# Altium integrated library Analog Devices Interface and Isolation Level Translators.IntLib: 67 symbols (part 1 of 3)
Pins are listed as number, name and electrical type; pins without a type are passive.

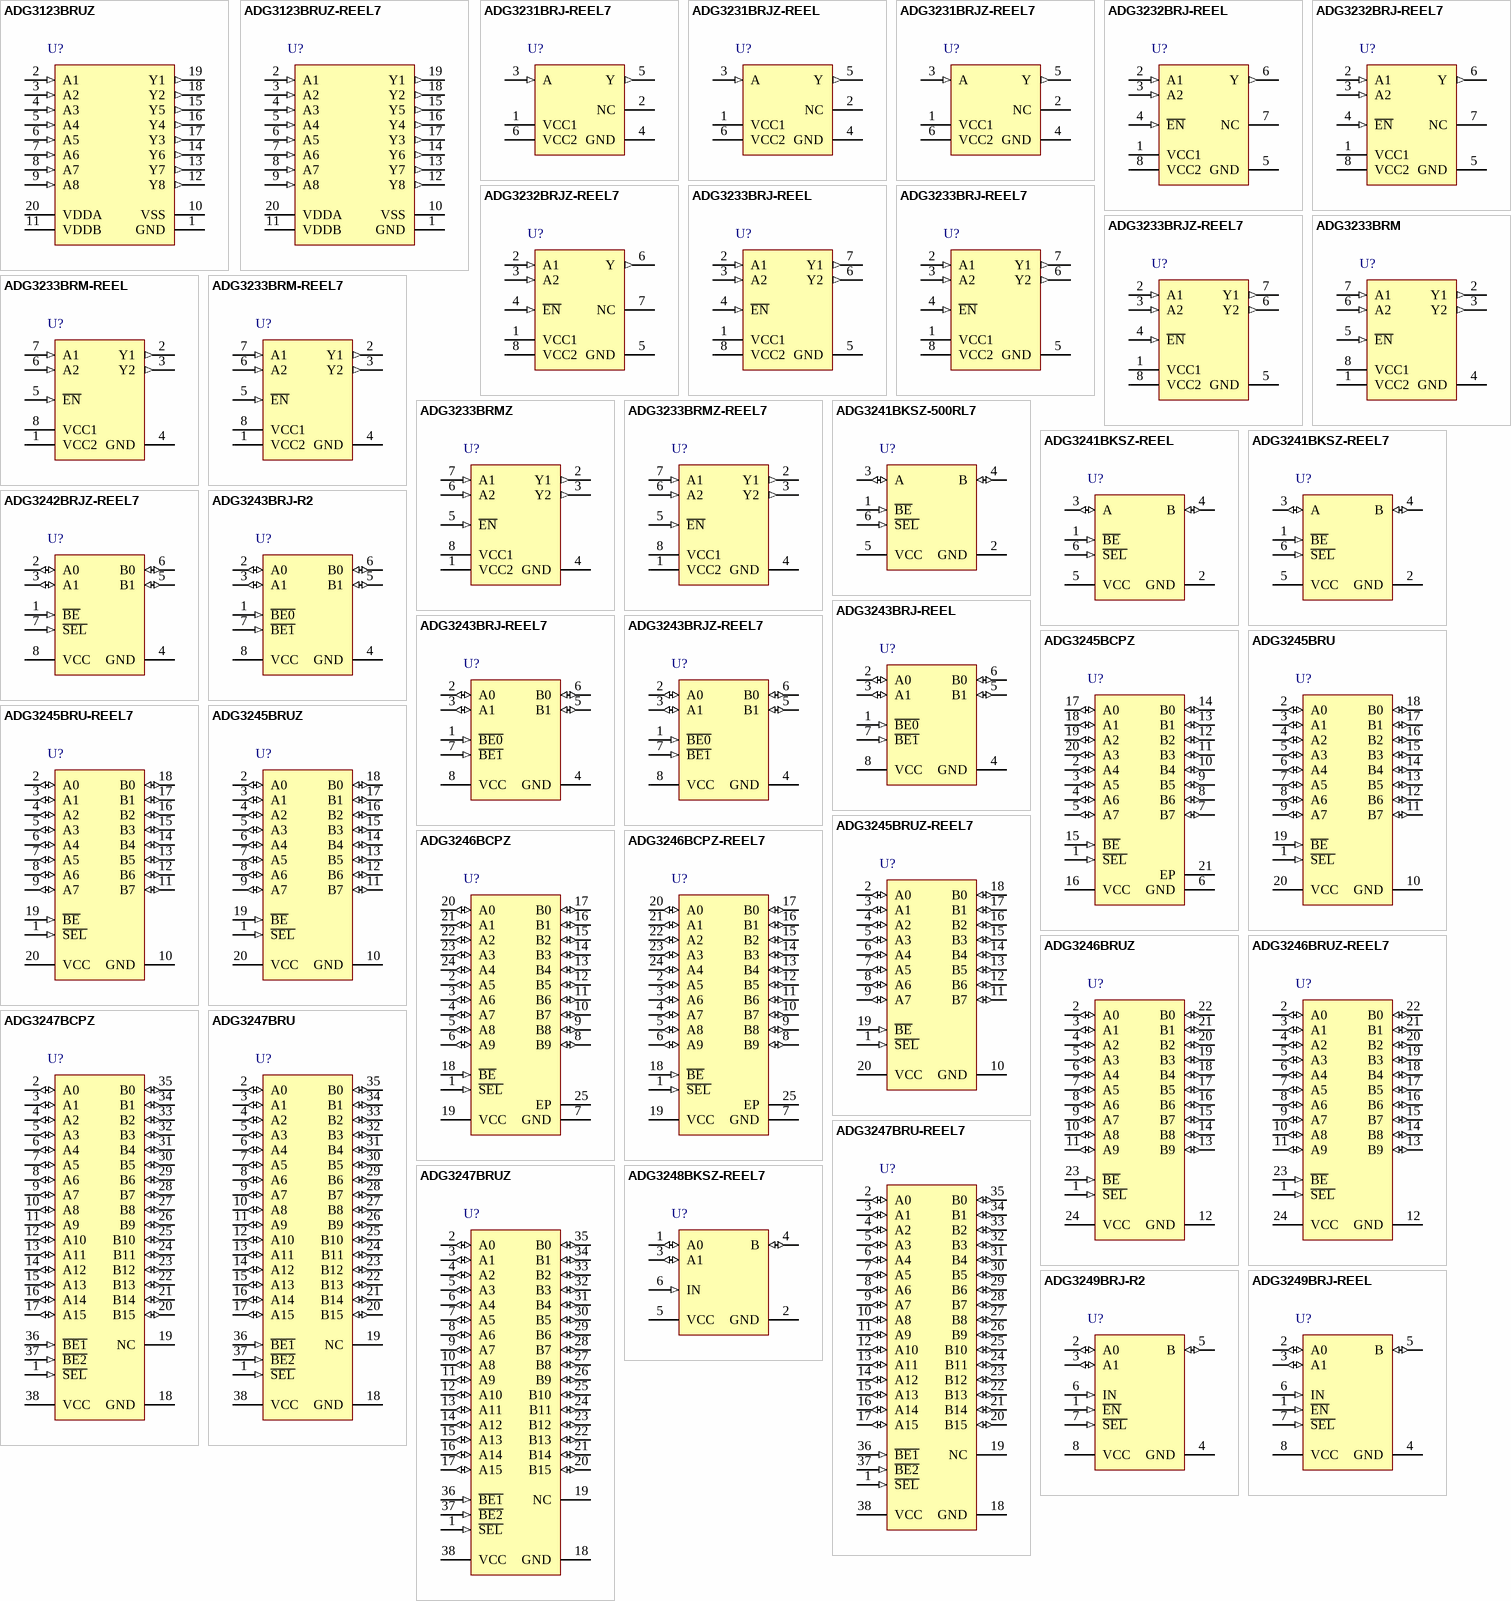
[diagram p0: symbols ADG3123BRUZ to ADG3249BRJ-REEL]

## ADG3123BRUZ
designator U?
8-Channel CMOS Logic to High Voltage Level Translator, 80 ns Prop Delay, -40 to 85 degC, 20-pin SOP (RU-20), Tube; Manufacturer: Analog Devices; PartNumber: ADG3123BRUZ; DatasheetVersion: Rev. A; PackageVersion: Jan-03; PackageReference: RU-20; PackageDescription: 20-Pin Thin Shrink Small Outline Package, Body 6.5 x 4.4 mm, Pitch 0.65 mm; Supplier 1: Digi-Key; Supplier Part Number 1: ADG3123BRUZ-ND; Supplier 2: Farnell; Supplier Part Number 2: 1607861; Supplier 3: Newark; Supplier Part Number 3: 76R0124; Supplier 4: Newark; Supplier Part Number 4: 19M0670; Supplier 5: Mouser; Supplier Part Number 5: 584-ADG3123BRUZ; Mounting Technology: Surface Mount; Code_JEDEC: MO-153AC; ComponentLink1Description: Manufacturer URL; ComponentLink1URL: http://www.analog.com/en/index.html; ComponentLink2Description: Datasheet; ComponentLink2URL: http://www.analog.com/static/imported-files/data_sheets/ADG3123.pdf; ComponentLink3Description: Package Specification; ComponentLink3URL: http://www.analog.com/static/imported-files/packages/364515793657813558433715854054607941441RU20.pdf
footprint ADI-RU-20_N (SOP, 20-Leads, Body 6.5x4.4mm, Pitch 0.65mm, IPC Medium Density)
footprint ADI-RU-20_L (SOP, 20-Leads, Body 6.5x4.4mm, Pitch 0.65mm, IPC High Density)
footprint ADI-RU-20_M (SOP, 20-Leads, Body 6.5x4.4mm, Pitch 0.65mm, IPC Low Density)
pins: 1 GND (power) "Ground Reference (0 V).", 2 A1 (in) "Level Translator CMOS Inputs.", 3 A2 (in) "Level Translator CMOS Inputs.", 4 A3 (in) "Level Translator CMOS Inputs.", 5 A4 (in) "Level Translator CMOS Inputs.", 6 A5 (in) "Level Translator CMOS Inputs.", 7 A6 (in) "Level Translator CMOS Inputs.", 8 A7 (in) "Level Translator CMOS Inputs.", 9 A8 (in) "Level Translator CMOS Inputs.", 10 VSS (power) "Most Negative Power Supply. Use the VSS pin to generate the output low level for Output Y1 to Output Y8.", 11 VDDB (power) "Positive Power Supply. Use the VDDB pin to generate the output high level for Output Y7 and Output Y8.", 12 Y8 (out) "Level Translator High Voltage Outputs.", 13 Y7 (out) "Level Translator High Voltage Outputs.", 14 Y6 (out) "Level Translator High Voltage Outputs.", 15 Y5 (out) "Level Translator High Voltage Outputs.", 16 Y4 (out) "Level Translator High Voltage Outputs.", 17 Y3 (out) "Level Translator High Voltage Outputs.", 18 Y2 (out) "Level Translator High Voltage Outputs.", 19 Y1 (out) "Level Translator High Voltage Outputs.", 20 VDDA (power) "Analog Input. Use the VDDA pin to generate the output high level for Output Y1 to Output Y6 (VDDA =< VDDB)."

## ADG3123BRUZ-REEL7
designator U?
8-Channel CMOS Logic to High Voltage Level Translator, 80 ns Prop Delay, -40 to 85 degC, 20-pin SOP (RU-20), Reel; Manufacturer: Analog Devices; PartNumber: ADG3123BRUZ-REEL7; DatasheetVersion: Rev. A; PackageVersion: Jan-03; PackageReference: RU-20; PackageDescription: 20-Pin Thin Shrink Small Outline Package, Body 6.5 x 4.4 mm, Pitch 0.65 mm; Supplier 1: Digi-Key; Supplier Part Number 1: ADG3123BRUZ-REEL7-ND; Supplier 2: Mouser; Supplier Part Number 2: 584-ADG3123BRUZ-R7; Mounting Technology: Surface Mount; Code_JEDEC: MO-153AC; ComponentLink1Description: Manufacturer URL; ComponentLink1URL: http://www.analog.com/en/index.html; ComponentLink2Description: Datasheet; ComponentLink2URL: http://www.analog.com/static/imported-files/data_sheets/ADG3123.pdf; ComponentLink3Description: Package Specification; ComponentLink3URL: http://www.analog.com/static/imported-files/packages/364515793657813558433715854054607941441RU20.pdf
footprint ADI-RU-20_N (SOP, 20-Leads, Body 6.5x4.4mm, Pitch 0.65mm, IPC Medium Density)
footprint ADI-RU-20_L (SOP, 20-Leads, Body 6.5x4.4mm, Pitch 0.65mm, IPC High Density)
footprint ADI-RU-20_M (SOP, 20-Leads, Body 6.5x4.4mm, Pitch 0.65mm, IPC Low Density)
pins: 1 GND (power) "Ground Reference (0 V).", 2 A1 (in) "Level Translator CMOS Inputs.", 3 A2 (in) "Level Translator CMOS Inputs.", 4 A3 (in) "Level Translator CMOS Inputs.", 5 A4 (in) "Level Translator CMOS Inputs.", 6 A5 (in) "Level Translator CMOS Inputs.", 7 A6 (in) "Level Translator CMOS Inputs.", 8 A7 (in) "Level Translator CMOS Inputs.", 9 A8 (in) "Level Translator CMOS Inputs.", 10 VSS (power) "Most Negative Power Supply. Use the VSS pin to generate the output low level for Output Y1 to Output Y8.", 11 VDDB (power) "Positive Power Supply. Use the VDDB pin to generate the output high level for Output Y7 and Output Y8.", 12 Y8 (out) "Level Translator High Voltage Outputs.", 13 Y7 (out) "Level Translator High Voltage Outputs.", 14 Y6 (out) "Level Translator High Voltage Outputs.", 15 Y5 (out) "Level Translator High Voltage Outputs.", 16 Y4 (out) "Level Translator High Voltage Outputs.", 17 Y3 (out) "Level Translator High Voltage Outputs.", 18 Y2 (out) "Level Translator High Voltage Outputs.", 19 Y1 (out) "Level Translator High Voltage Outputs.", 20 VDDA (power) "Analog Input. Use the VDDA pin to generate the output high level for Output Y1 to Output Y6 (VDDA =< VDDB)."

## ADG3231BRJ-REEL7
designator U?
1.65 V to 3.6 V, Single-Channel Level Translator, -40 to 85 degC, 6-pin SOT23 (RJ-6), Reel; Manufacturer: Analog Devices; PartNumber: ADG3231BRJ-REEL7; DatasheetVersion: Rev. C; PackageVersion: 121608-A, 12/2008; PackageReference: RJ-6; PackageDescription: 6-Pin Small Outline Transistor Package, Body 2.9 x 1.6 mm, Pitch 0.95 mm; Supplier 1: Digi-Key; Supplier Part Number 1: ADG3231BRJ-REEL7TR-ND; Supplier 2: Digi-Key; Supplier Part Number 2: ADG3231BRJ-REEL7CT-ND; Supplier 3: Digi-Key; Supplier Part Number 3: ADG3231BRJ-REEL7DKR-ND; Supplier 4: Mouser; Supplier Part Number 4: 584-ADG3231BRJ-R7; Mounting Technology: Surface Mount; Code_JEDEC: MO-178-AB; ComponentLink1Description: Manufacturer URL; ComponentLink1URL: http://www.analog.com/en/index.html; ComponentLink2Description: Datasheet; ComponentLink2URL: http://www.analog.com/static/imported-files/data_sheets/ADG3231.pdf; ComponentLink3Description: Package Specification; ComponentLink3URL: http://www.analog.com/static/imported-files/packages/PKG_PDF/SOT-23(RJ)/RJ_6.pdf
footprint ADI-RJ-6_N (SOT23, 6-Leads, Body 2.9x1.6mm, Pitch 0.95mm, IPC Medium Density)
footprint ADI-RJ-6_L (SOT23, 6-Leads, Body 2.9x1.6mm, Pitch 0.95mm, IPC High Density)
footprint ADI-RJ-6_M (SOT23, 6-Leads, Body 2.9x1.6mm, Pitch 0.95mm, IPC Low Density)
pins: 1 VCC1 (power) "Supply Voltage 1. Can be any supply voltage from 1.65 V to 3.6 V.", 2 NC "Not internally connected.", 3 A (in) "Digital Input Referred to VCC1.", 4 GND (power) "Device Ground Pin.", 5 Y (out) "Digital Output Referred to VCC2.", 6 VCC2 (power) "Supply Voltage 2. Can be any supply voltage from 1.65 V to 3.6 V."

## ADG3231BRJZ-REEL
designator U?
1.65 V to 3.6 V, Single-Channel Level Translator, -40 to 85 degC, 6-pin SOT23 (RJ-6), Reel; Manufacturer: Analog Devices; PartNumber: ADG3231BRJZ-REEL; DatasheetVersion: Rev. C; PackageVersion: 121608-A, 12/2008; PackageReference: RJ-6; PackageDescription: 6-Pin Small Outline Transistor Package, Body 2.9 x 1.6 mm, Pitch 0.95 mm; Supplier 1: Digi-Key; Supplier Part Number 1: ADG3231BRJZ-REEL-ND; Supplier 2: Mouser; Supplier Part Number 2: 584-ADG3231BRJZ-R; Mounting Technology: Surface Mount; Code_JEDEC: MO-178-AB; ComponentLink1Description: Manufacturer URL; ComponentLink1URL: http://www.analog.com/en/index.html; ComponentLink2Description: Datasheet; ComponentLink2URL: http://www.analog.com/static/imported-files/data_sheets/ADG3231.pdf; ComponentLink3Description: Package Specification; ComponentLink3URL: http://www.analog.com/static/imported-files/packages/PKG_PDF/SOT-23(RJ)/RJ_6.pdf
footprint ADI-RJ-6_N (SOT23, 6-Leads, Body 2.9x1.6mm, Pitch 0.95mm, IPC Medium Density)
footprint ADI-RJ-6_L (SOT23, 6-Leads, Body 2.9x1.6mm, Pitch 0.95mm, IPC High Density)
footprint ADI-RJ-6_M (SOT23, 6-Leads, Body 2.9x1.6mm, Pitch 0.95mm, IPC Low Density)
pins: 1 VCC1 (power) "Supply Voltage 1. Can be any supply voltage from 1.65 V to 3.6 V.", 2 NC "Not internally connected.", 3 A (in) "Digital Input Referred to VCC1.", 4 GND (power) "Device Ground Pin.", 5 Y (out) "Digital Output Referred to VCC2.", 6 VCC2 (power) "Supply Voltage 2. Can be any supply voltage from 1.65 V to 3.6 V."

## ADG3231BRJZ-REEL7
designator U?
1.65 V to 3.6 V, Single-Channel Level Translator, -40 to 85 degC, 6-pin SOT23 (RJ-6), Reel; Manufacturer: Analog Devices; PartNumber: ADG3231BRJZ-REEL7; DatasheetVersion: Rev. C; PackageVersion: 121608-A, 12/2008; PackageReference: RJ-6; PackageDescription: 6-Pin Small Outline Transistor Package, Body 2.9 x 1.6 mm, Pitch 0.95 mm; Supplier 1: Digi-Key; Supplier Part Number 1: ADG3231BRJZ-REEL7TR-ND; Supplier 2: Digi-Key; Supplier Part Number 2: ADG3231BRJZ-REEL7CT-ND; Supplier 3: Digi-Key; Supplier Part Number 3: ADG3231BRJZ-REEL7DKR-ND; Supplier 4: Farnell; Supplier Part Number 4: 2312833; Supplier 5: Newark; Supplier Part Number 5: 67W2633; Supplier 6: Newark; Supplier Part Number 6: 59K1200; Supplier 7: Mouser; Supplier Part Number 7: 584-ADG3231BRJZ-R7; Mounting Technology: Surface Mount; Code_JEDEC: MO-178-AB; ComponentLink1Description: Manufacturer URL; ComponentLink1URL: http://www.analog.com/en/index.html; ComponentLink2Description: Datasheet; ComponentLink2URL: http://www.analog.com/static/imported-files/data_sheets/ADG3231.pdf; ComponentLink3Description: Package Specification; ComponentLink3URL: http://www.analog.com/static/imported-files/packages/PKG_PDF/SOT-23(RJ)/RJ_6.pdf
footprint ADI-RJ-6_N (SOT23, 6-Leads, Body 2.9x1.6mm, Pitch 0.95mm, IPC Medium Density)
footprint ADI-RJ-6_L (SOT23, 6-Leads, Body 2.9x1.6mm, Pitch 0.95mm, IPC High Density)
footprint ADI-RJ-6_M (SOT23, 6-Leads, Body 2.9x1.6mm, Pitch 0.95mm, IPC Low Density)
pins: 1 VCC1 (power) "Supply Voltage 1. Can be any supply voltage from 1.65 V to 3.6 V.", 2 NC "Not internally connected.", 3 A (in) "Digital Input Referred to VCC1.", 4 GND (power) "Device Ground Pin.", 5 Y (out) "Digital Output Referred to VCC2.", 6 VCC2 (power) "Supply Voltage 2. Can be any supply voltage from 1.65 V to 3.6 V."

## ADG3232BRJ-REEL
designator U?
Low Voltage 2-1 Mux, Level Translator, -40 to 85 degC, 8-pin SOT23 (RJ-8), Reel; Manufacturer: Analog Devices; PartNumber: ADG3232BRJ-REEL; DatasheetVersion: Rev. A; PackageVersion: 121608-A, 12/2008; PackageReference: RJ-8; PackageDescription: 8-Pin Small Outline Transistor Package, Body 2.9 x 1.6 mm, Pitch 0.65 mm; Supplier 1: Digi-Key; Supplier Part Number 1: ADG3232BRJ-REEL-ND; Supplier 2: Mouser; Supplier Part Number 2: 584-ADG3232BRJ-R; Mounting Technology: Surface Mount; Code_JEDEC: MO-178-BA; ComponentLink1Description: Manufacturer URL; ComponentLink1URL: http://www.analog.com/en/index.html; ComponentLink2Description: Datasheet; ComponentLink2URL: http://www.analog.com/static/imported-files/data_sheets/ADG3232.pdf; ComponentLink3Description: Package Specification; ComponentLink3URL: http://www.analog.com/static/imported-files/packages/PKG_PDF/SOT-23(RJ)/RJ_8.pdf
footprint ADI-RJ-8_V (SOT23, 8-Leads, Body 2.9x1.6mm, Pitch 0.65mm)
pins: 1 VCC1 (power) "Supply Voltage 1 can be any supply voltage from 1.65 V to 3.6 V.", 2 A1 (in) "Input Referred to VCC1.", 3 A2 (in) "Input Referred to VCC1.", 4 ~{EN} (in) "Active Low Device Enable. When low, bypass mode is enabled; when high, the device is in normal mode.", 5 GND (power) "Device Ground Pin.", 6 Y (out) "Output Referred to VCC2.", 7 NC "Not Internally Connected.", 8 VCC2 (power) "Supply Voltage 2 can be any supply voltage from 1.65 V to 3.6 V."

## ADG3232BRJ-REEL7
designator U?
Low Voltage 2-1 Mux, Level Translator, -40 to 85 degC, 8-pin SOT23 (RJ-8), Reel; Manufacturer: Analog Devices; PartNumber: ADG3232BRJ-REEL7; DatasheetVersion: Rev. A; PackageVersion: 121608-A, 12/2008; PackageReference: RJ-8; PackageDescription: 8-Pin Small Outline Transistor Package, Body 2.9 x 1.6 mm, Pitch 0.65 mm; Supplier 1: Digi-Key; Supplier Part Number 1: ADG3232BRJ-REEL7TR-ND; Supplier 2: Digi-Key; Supplier Part Number 2: ADG3232BRJ-REEL7CT-ND; Supplier 3: Digi-Key; Supplier Part Number 3: ADG3232BRJ-REEL7DKR-ND; Supplier 4: Mouser; Supplier Part Number 4: 584-ADG3232BRJ-R7; Mounting Technology: Surface Mount; Code_JEDEC: MO-178-BA; ComponentLink1Description: Manufacturer URL; ComponentLink1URL: http://www.analog.com/en/index.html; ComponentLink2Description: Datasheet; ComponentLink2URL: http://www.analog.com/static/imported-files/data_sheets/ADG3232.pdf; ComponentLink3Description: Package Specification; ComponentLink3URL: http://www.analog.com/static/imported-files/packages/PKG_PDF/SOT-23(RJ)/RJ_8.pdf
footprint ADI-RJ-8_V (SOT23, 8-Leads, Body 2.9x1.6mm, Pitch 0.65mm)
pins: 1 VCC1 (power) "Supply Voltage 1 can be any supply voltage from 1.65 V to 3.6 V.", 2 A1 (in) "Input Referred to VCC1.", 3 A2 (in) "Input Referred to VCC1.", 4 ~{EN} (in) "Active Low Device Enable. When low, bypass mode is enabled; when high, the device is in normal mode.", 5 GND (power) "Device Ground Pin.", 6 Y (out) "Output Referred to VCC2.", 7 NC "Not Internally Connected.", 8 VCC2 (power) "Supply Voltage 2 can be any supply voltage from 1.65 V to 3.6 V."

## ADG3232BRJZ-REEL7
designator U?
Low Voltage 2-1 Mux, Level Translator, -40 to 85 degC, 8-pin SOT23 (RJ-8), Reel; Manufacturer: Analog Devices; PartNumber: ADG3232BRJZ-REEL7; DatasheetVersion: Rev. A; PackageVersion: 121608-A, 12/2008; PackageReference: RJ-8; PackageDescription: 8-Pin Small Outline Transistor Package, Body 2.9 x 1.6 mm, Pitch 0.65 mm; Supplier 1: Mouser; Supplier Part Number 1: N/A; Mounting Technology: Surface Mount; Code_JEDEC: MO-178-BA; ComponentLink1Description: Manufacturer URL; ComponentLink1URL: http://www.analog.com/en/index.html; ComponentLink2Description: Datasheet; ComponentLink2URL: http://www.analog.com/static/imported-files/data_sheets/ADG3232.pdf; ComponentLink3Description: Package Specification; ComponentLink3URL: http://www.analog.com/static/imported-files/packages/PKG_PDF/SOT-23(RJ)/RJ_8.pdf
footprint ADI-RJ-8_V (SOT23, 8-Leads, Body 2.9x1.6mm, Pitch 0.65mm)
pins: 1 VCC1 (power) "Supply Voltage 1 can be any supply voltage from 1.65 V to 3.6 V.", 2 A1 (in) "Input Referred to VCC1.", 3 A2 (in) "Input Referred to VCC1.", 4 ~{EN} (in) "Active Low Device Enable. When low, bypass mode is enabled; when high, the device is in normal mode.", 5 GND (power) "Device Ground Pin.", 6 Y (out) "Output Referred to VCC2.", 7 NC "Not Internally Connected.", 8 VCC2 (power) "Supply Voltage 2 can be any supply voltage from 1.65 V to 3.6 V."

## ADG3233BRJ-REEL
designator U?
Low Voltage 1.65 V to 3.6 V, Bidirectional Logic Level Translation, Bypass Switch, -40 to 85 degC, 8-pin SOT23 (RJ-8), Reel; Manufacturer: Analog Devices; PartNumber: ADG3233BRJ-REEL; DatasheetVersion: Rev. A; PackageVersion: 121608-A, 12/2008; PackageReference: RJ-8; PackageDescription: 8-Pin Small Outline Transistor Package, Body 2.9 x 1.6 mm, Pitch 0.65 mm; Supplier 1: Digi-Key; Supplier Part Number 1: ADG3233BRJ-REEL-ND; Supplier 2: Newark; Supplier Part Number 2: 68H8840; Supplier 3: Mouser; Supplier Part Number 3: 584-ADG3233BRJ-R; Mounting Technology: Surface Mount; Code_JEDEC: MO-178-BA; ComponentLink1Description: Manufacturer URL; ComponentLink1URL: http://www.analog.com/en/index.html; ComponentLink2Description: Datasheet; ComponentLink2URL: http://www.analog.com/static/imported-files/data_sheets/ADG3233.pdf; ComponentLink3Description: Package Specification; ComponentLink3URL: http://www.analog.com/static/imported-files/packages/PKG_PDF/SOT-23(RJ)/RJ_8.pdf
footprint ADI-RJ-8_V (SOT23, 8-Leads, Body 2.9x1.6mm, Pitch 0.65mm)
pins: 1 VCC1 (power) "Supply Voltage 1, can be any supply voltage from 1.65 V to 3.6 V.", 2 A1 (in) "Input Referred to VCC1.", 3 A2 (in) "Input Referred to VCC2.", 4 ~{EN} (in) "Active Low Device Enable. When low, bypass mode is enabled; when high, the device is in normal mode.", 5 GND (power) "Device Ground.", 6 Y2 (out) "Output Referred to VCC2. Voltage levels appearing at Y2 will be translated from a VCC1 voltage level to a VCC2 voltage level.", 7 Y1 (out) "Output Referred to VCC1.", 8 VCC2 (power) "Supply Voltage 2, can be any supply voltage from 1.65 V to 3.6 V."

## ADG3233BRJ-REEL7
designator U?
Low Voltage 1.65 V to 3.6 V, Bidirectional Logic Level Translation, Bypass Switch, -40 to 85 degC, 8-pin SOT23 (RJ-8), Reel; Manufacturer: Analog Devices; PartNumber: ADG3233BRJ-REEL7; DatasheetVersion: Rev. A; PackageVersion: 121608-A, 12/2008; PackageReference: RJ-8; PackageDescription: 8-Pin Small Outline Transistor Package, Body 2.9 x 1.6 mm, Pitch 0.65 mm; Supplier 1: Digi-Key; Supplier Part Number 1: ADG3233BRJ-REEL7TR-ND; Supplier 2: Digi-Key; Supplier Part Number 2: ADG3233BRJ-REEL7CT-ND; Supplier 3: Digi-Key; Supplier Part Number 3: ADG3233BRJ-REEL7DKR-ND; Supplier 4: Newark; Supplier Part Number 4: 68H8841; Supplier 5: Mouser; Supplier Part Number 5: 584-ADG3233BRJ-R7; Mounting Technology: Surface Mount; Code_JEDEC: MO-178-BA; ComponentLink1Description: Manufacturer URL; ComponentLink1URL: http://www.analog.com/en/index.html; ComponentLink2Description: Datasheet; ComponentLink2URL: http://www.analog.com/static/imported-files/data_sheets/ADG3233.pdf; ComponentLink3Description: Package Specification; ComponentLink3URL: http://www.analog.com/static/imported-files/packages/PKG_PDF/SOT-23(RJ)/RJ_8.pdf
footprint ADI-RJ-8_V (SOT23, 8-Leads, Body 2.9x1.6mm, Pitch 0.65mm)
pins: 1 VCC1 (power) "Supply Voltage 1, can be any supply voltage from 1.65 V to 3.6 V.", 2 A1 (in) "Input Referred to VCC1.", 3 A2 (in) "Input Referred to VCC2.", 4 ~{EN} (in) "Active Low Device Enable. When low, bypass mode is enabled; when high, the device is in normal mode.", 5 GND (power) "Device Ground.", 6 Y2 (out) "Output Referred to VCC2. Voltage levels appearing at Y2 will be translated from a VCC1 voltage level to a VCC2 voltage level.", 7 Y1 (out) "Output Referred to VCC1.", 8 VCC2 (power) "Supply Voltage 2, can be any supply voltage from 1.65 V to 3.6 V."

## ADG3233BRJZ-REEL7
designator U?
Low Voltage 1.65 V to 3.6 V, Bidirectional Logic Level Translation, Bypass Switch, -40 to 85 degC, 8-pin SOT23 (RJ-8), Reel; Manufacturer: Analog Devices; PartNumber: ADG3233BRJZ-REEL7; DatasheetVersion: Rev. A; PackageVersion: 121608-A, 12/2008; PackageReference: RJ-8; PackageDescription: 8-Pin Small Outline Transistor Package, Body 2.9 x 1.6 mm, Pitch 0.65 mm; Supplier 1: Digi-Key; Supplier Part Number 1: ADG3233BRJZ-REEL7TR-ND; Supplier 2: Digi-Key; Supplier Part Number 2: ADG3233BRJZ-REEL7CT-ND; Supplier 3: Digi-Key; Supplier Part Number 3: ADG3233BRJZ-REEL7DKR-ND; Supplier 4: Mouser; Supplier Part Number 4: 584-ADG3233BRJZ-R7; Mounting Technology: Surface Mount; Code_JEDEC: MO-178-BA; ComponentLink1Description: Manufacturer URL; ComponentLink1URL: http://www.analog.com/en/index.html; ComponentLink2Description: Datasheet; ComponentLink2URL: http://www.analog.com/static/imported-files/data_sheets/ADG3233.pdf; ComponentLink3Description: Package Specification; ComponentLink3URL: http://www.analog.com/static/imported-files/packages/PKG_PDF/SOT-23(RJ)/RJ_8.pdf
footprint ADI-RJ-8_V (SOT23, 8-Leads, Body 2.9x1.6mm, Pitch 0.65mm)
pins: 1 VCC1 (power) "Supply Voltage 1, can be any supply voltage from 1.65 V to 3.6 V.", 2 A1 (in) "Input Referred to VCC1.", 3 A2 (in) "Input Referred to VCC2.", 4 ~{EN} (in) "Active Low Device Enable. When low, bypass mode is enabled; when high, the device is in normal mode.", 5 GND (power) "Device Ground.", 6 Y2 (out) "Output Referred to VCC2. Voltage levels appearing at Y2 will be translated from a VCC1 voltage level to a VCC2 voltage level.", 7 Y1 (out) "Output Referred to VCC1.", 8 VCC2 (power) "Supply Voltage 2, can be any supply voltage from 1.65 V to 3.6 V."

## ADG3233BRM
designator U?
Low Voltage 1.65 V to 3.6 V, Bidirectional Logic Level Translation, Bypass Switch, -40 to 85 degC, 8-pin SOP (RM-8), Tube; Manufacturer: Analog Devices; PartNumber: ADG3233BRM; DatasheetVersion: Rev. A; PackageVersion: Aug-05; PackageReference: RM-8; PackageDescription: 8-Pin Mini Small Outline Package, Body 3 x 3 mm, Pitch 0.65 mm; Supplier 1: Digi-Key; Supplier Part Number 1: ADG3233BRM-ND; Supplier 2: Mouser; Supplier Part Number 2: 584-ADG3233BRM; Mounting Technology: Surface Mount; Code_JEDEC: MO-187-AA; ComponentLink1Description: Manufacturer URL; ComponentLink1URL: http://www.analog.com/en/index.html; ComponentLink2Description: Datasheet; ComponentLink2URL: http://www.analog.com/static/imported-files/data_sheets/ADG3233.pdf; ComponentLink3Description: Package Specification; ComponentLink3URL: http://www.analog.com/static/imported-files/packages/PKG_PDF/MSOP%28RM%29/RM_8.pdf
footprint ADI-RM-8_N (SOP, 8-Leads, Body 3x3mm, Pitch 0.65mm, IPC Medium Density)
footprint ADI-RM-8_L (SOP, 8-Leads, Body 3x3mm, Pitch 0.65mm, IPC High Density)
footprint ADI-RM-8_M (SOP, 8-Leads, Body 3x3mm, Pitch 0.65mm, IPC Low Density)
pins: 1 VCC2 (power) "Supply Voltage 2, can be any supply voltage from 1.65 V to 3.6 V.", 2 Y1 (out) "Output Referred to VCC1.", 3 Y2 (out) "Output Referred to VCC2. Voltage levels appearing at Y2 will be translated from a VCC1 voltage level to a VCC2 voltage level.", 4 GND (power) "Device Ground.", 5 ~{EN} (in) "Active Low Device Enable. When low, bypass mode is enabled; when high, the device is in normal mode.", 6 A2 (in) "Input Referred to VCC2.", 7 A1 (in) "Input Referred to VCC1.", 8 VCC1 (power) "Supply Voltage 1, can be any supply voltage from 1.65 V to 3.6 V."

## ADG3233BRM-REEL
designator U?
Low Voltage 1.65 V to 3.6 V, Bidirectional Logic Level Translation, Bypass Switch, -40 to 85 degC, 8-pin SOP (RM-8), Reel; Manufacturer: Analog Devices; PartNumber: ADG3233BRM-REEL; DatasheetVersion: Rev. A; PackageVersion: Aug-05; PackageReference: RM-8; PackageDescription: 8-Pin Mini Small Outline Package, Body 3 x 3 mm, Pitch 0.65 mm; Supplier 1: Digi-Key; Supplier Part Number 1: ADG3233BRM-REEL-ND; Supplier 2: Mouser; Supplier Part Number 2: 584-ADG3233BRM-R; Mounting Technology: Surface Mount; Code_JEDEC: MO-187-AA; ComponentLink1Description: Manufacturer URL; ComponentLink1URL: http://www.analog.com/en/index.html; ComponentLink2Description: Datasheet; ComponentLink2URL: http://www.analog.com/static/imported-files/data_sheets/ADG3233.pdf; ComponentLink3Description: Package Specification; ComponentLink3URL: http://www.analog.com/static/imported-files/packages/PKG_PDF/MSOP%28RM%29/RM_8.pdf
footprint ADI-RM-8_N (SOP, 8-Leads, Body 3x3mm, Pitch 0.65mm, IPC Medium Density)
footprint ADI-RM-8_L (SOP, 8-Leads, Body 3x3mm, Pitch 0.65mm, IPC High Density)
footprint ADI-RM-8_M (SOP, 8-Leads, Body 3x3mm, Pitch 0.65mm, IPC Low Density)
pins: 1 VCC2 (power) "Supply Voltage 2, can be any supply voltage from 1.65 V to 3.6 V.", 2 Y1 (out) "Output Referred to VCC1.", 3 Y2 (out) "Output Referred to VCC2. Voltage levels appearing at Y2 will be translated from a VCC1 voltage level to a VCC2 voltage level.", 4 GND (power) "Device Ground.", 5 ~{EN} (in) "Active Low Device Enable. When low, bypass mode is enabled; when high, the device is in normal mode.", 6 A2 (in) "Input Referred to VCC2.", 7 A1 (in) "Input Referred to VCC1.", 8 VCC1 (power) "Supply Voltage 1, can be any supply voltage from 1.65 V to 3.6 V."

## ADG3233BRM-REEL7
designator U?
Low Voltage 1.65 V to 3.6 V, Bidirectional Logic Level Translation, Bypass Switch, -40 to 85 degC, 8-pin SOP (RM-8), Reel; Manufacturer: Analog Devices; PartNumber: ADG3233BRM-REEL7; DatasheetVersion: Rev. A; PackageVersion: Aug-05; PackageReference: RM-8; PackageDescription: 8-Pin Mini Small Outline Package, Body 3 x 3 mm, Pitch 0.65 mm; Supplier 1: Digi-Key; Supplier Part Number 1: ADG3233BRMREEL7TR-ND; Supplier 2: Digi-Key; Supplier Part Number 2: ADG3233BRMREEL7CT-ND; Supplier 3: Mouser; Supplier Part Number 3: 584-ADG3233BRM-R7; Mounting Technology: Surface Mount; Code_JEDEC: MO-187-AA; ComponentLink1Description: Manufacturer URL; ComponentLink1URL: http://www.analog.com/en/index.html; ComponentLink2Description: Datasheet; ComponentLink2URL: http://www.analog.com/static/imported-files/data_sheets/ADG3233.pdf; ComponentLink3Description: Package Specification; ComponentLink3URL: http://www.analog.com/static/imported-files/packages/PKG_PDF/MSOP%28RM%29/RM_8.pdf
footprint ADI-RM-8_N (SOP, 8-Leads, Body 3x3mm, Pitch 0.65mm, IPC Medium Density)
footprint ADI-RM-8_L (SOP, 8-Leads, Body 3x3mm, Pitch 0.65mm, IPC High Density)
footprint ADI-RM-8_M (SOP, 8-Leads, Body 3x3mm, Pitch 0.65mm, IPC Low Density)
pins: 1 VCC2 (power) "Supply Voltage 2, can be any supply voltage from 1.65 V to 3.6 V.", 2 Y1 (out) "Output Referred to VCC1.", 3 Y2 (out) "Output Referred to VCC2. Voltage levels appearing at Y2 will be translated from a VCC1 voltage level to a VCC2 voltage level.", 4 GND (power) "Device Ground.", 5 ~{EN} (in) "Active Low Device Enable. When low, bypass mode is enabled; when high, the device is in normal mode.", 6 A2 (in) "Input Referred to VCC2.", 7 A1 (in) "Input Referred to VCC1.", 8 VCC1 (power) "Supply Voltage 1, can be any supply voltage from 1.65 V to 3.6 V."

## ADG3233BRMZ
designator U?
Low Voltage 1.65 V to 3.6 V, Bidirectional Logic Level Translation, Bypass Switch, -40 to 85 degC, 8-pin SOP (RM-8), Tube; Manufacturer: Analog Devices; PartNumber: ADG3233BRMZ; DatasheetVersion: Rev. A; PackageVersion: Aug-05; PackageReference: RM-8; PackageDescription: 8-Pin Mini Small Outline Package, Body 3 x 3 mm, Pitch 0.65 mm; Supplier 1: Digi-Key; Supplier Part Number 1: ADG3233BRMZ-ND; Supplier 2: Newark; Supplier Part Number 2: 59K1201; Supplier 3: Mouser; Supplier Part Number 3: 584-ADG3233BRMZ; Mounting Technology: Surface Mount; Code_JEDEC: MO-187-AA; ComponentLink1Description: Manufacturer URL; ComponentLink1URL: http://www.analog.com/en/index.html; ComponentLink2Description: Datasheet; ComponentLink2URL: http://www.analog.com/static/imported-files/data_sheets/ADG3233.pdf; ComponentLink3Description: Package Specification; ComponentLink3URL: http://www.analog.com/static/imported-files/packages/PKG_PDF/MSOP%28RM%29/RM_8.pdf
footprint ADI-RM-8_N (SOP, 8-Leads, Body 3x3mm, Pitch 0.65mm, IPC Medium Density)
footprint ADI-RM-8_L (SOP, 8-Leads, Body 3x3mm, Pitch 0.65mm, IPC High Density)
footprint ADI-RM-8_M (SOP, 8-Leads, Body 3x3mm, Pitch 0.65mm, IPC Low Density)
pins: 1 VCC2 (power) "Supply Voltage 2, can be any supply voltage from 1.65 V to 3.6 V.", 2 Y1 (out) "Output Referred to VCC1.", 3 Y2 (out) "Output Referred to VCC2. Voltage levels appearing at Y2 will be translated from a VCC1 voltage level to a VCC2 voltage level.", 4 GND (power) "Device Ground.", 5 ~{EN} (in) "Active Low Device Enable. When low, bypass mode is enabled; when high, the device is in normal mode.", 6 A2 (in) "Input Referred to VCC2.", 7 A1 (in) "Input Referred to VCC1.", 8 VCC1 (power) "Supply Voltage 1, can be any supply voltage from 1.65 V to 3.6 V."

## ADG3233BRMZ-REEL7
designator U?
Low Voltage 1.65 V to 3.6 V, Bidirectional Logic Level Translation, Bypass Switch, -40 to 85 degC, 8-pin SOP (RM-8), Reel; Manufacturer: Analog Devices; PartNumber: ADG3233BRMZ-REEL7; DatasheetVersion: Rev. A; PackageVersion: Aug-05; PackageReference: RM-8; PackageDescription: 8-Pin Mini Small Outline Package, Body 3 x 3 mm, Pitch 0.65 mm; Supplier 1: Digi-Key; Supplier Part Number 1: ADG3233BRMZ-REEL7-ND; Supplier 2: Mouser; Supplier Part Number 2: 584-ADG3233BRMZ-R7; Mounting Technology: Surface Mount; Code_JEDEC: MO-187-AA; ComponentLink1Description: Manufacturer URL; ComponentLink1URL: http://www.analog.com/en/index.html; ComponentLink2Description: Datasheet; ComponentLink2URL: http://www.analog.com/static/imported-files/data_sheets/ADG3233.pdf; ComponentLink3Description: Package Specification; ComponentLink3URL: http://www.analog.com/static/imported-files/packages/PKG_PDF/MSOP%28RM%29/RM_8.pdf
footprint ADI-RM-8_N (SOP, 8-Leads, Body 3x3mm, Pitch 0.65mm, IPC Medium Density)
footprint ADI-RM-8_L (SOP, 8-Leads, Body 3x3mm, Pitch 0.65mm, IPC High Density)
footprint ADI-RM-8_M (SOP, 8-Leads, Body 3x3mm, Pitch 0.65mm, IPC Low Density)
pins: 1 VCC2 (power) "Supply Voltage 2, can be any supply voltage from 1.65 V to 3.6 V.", 2 Y1 (out) "Output Referred to VCC1.", 3 Y2 (out) "Output Referred to VCC2. Voltage levels appearing at Y2 will be translated from a VCC1 voltage level to a VCC2 voltage level.", 4 GND (power) "Device Ground.", 5 ~{EN} (in) "Active Low Device Enable. When low, bypass mode is enabled; when high, the device is in normal mode.", 6 A2 (in) "Input Referred to VCC2.", 7 A1 (in) "Input Referred to VCC1.", 8 VCC1 (power) "Supply Voltage 1, can be any supply voltage from 1.65 V to 3.6 V."

## ADG3241BKSZ-500RL7
designator U?
1500 Mbps, 2.5 V / 3.3 V, 1-Bit, 2-Port Level Translator Bus Switch, 225 ps Prop Delay, -40 to 85 degC, 6-Pin SOT (KS-6), Reel; Manufacturer: Analog Devices; PartNumber: ADG3241BKSZ-500RL7; ICC1: 1uA; DatasheetVersion: Rev. B; PackageVersion: 072809-A, 07/2009; PackageReference: KS-6; PackageDescription: 6-Pin Thin Shrink Small Outline Transistor Package, Body 2 x 1.25 mm, Pitch 0.65 mm; Supplier 1: Digi-Key; Supplier Part Number 1: ADG3241BKSZ-500RL7TR-ND; Supplier 2: Digi-Key; Supplier Part Number 2: ADG3241BKSZ-500RL7CT-ND; Supplier 3: Digi-Key; Supplier Part Number 3: ADG3241BKSZ-500RL7DKR-ND; Supplier 4: Newark; Supplier Part Number 4: 59K1206; Supplier 5: Mouser; Supplier Part Number 5: 584-ADG3241BKSZ500R7; Data Rate (typ): 1500Mbps; Packing: Reel; Mounting Technology: Surface Mount; Code_JEDEC: MO-203-AB; ComponentLink1Description: Manufacturer URL; ComponentLink1URL: http://www.analog.com/en/index.html; ComponentLink2Description: Datasheet; ComponentLink2URL: http://www.analog.com/static/imported-files/data_sheets/ADG3241.pdf; ComponentLink3Description: Package Specification; ComponentLink3URL: http://www.analog.com/static/imported-files/packages/PKG_PDF/SC70(KS)/KS_6.pdf
footprint ADI-KS-6_N (SOT23, 6-Leads, Body 2x1.25mm, Pitch 0.65mm, IPC Medium Density)
footprint ADI-KS-6_L (SOT23, 6-Leads, Body 2x1.25mm, Pitch 0.65mm, IPC High Density)
footprint ADI-KS-6_M (SOT23, 6-Leads, Body 2x1.25mm, Pitch 0.65mm, IPC Low Density)
pins: 1 ~{BE} (in) "Bus Enable (Active Low)", 2 GND (power) "Ground Reference", 3 A (io) "Port A, Input or Output", 4 B (io) "Port B, Input or Output", 5 VCC (power) "Positive Power Supply Voltage", 6 ~{SEL} (in) "Level Translation Select"

## ADG3241BKSZ-REEL
designator U?
1500 Mbps, 2.5 V / 3.3 V, 1-Bit, 2-Port Level Translator Bus Switch, 225 ps Prop Delay, -40 to 85 degC, 6-Pin SOT (KS-6), Reel; Manufacturer: Analog Devices; PartNumber: ADG3241BKSZ-REEL; ICC1: 1uA; DatasheetVersion: Rev. B; PackageVersion: 072809-A, 07/2009; PackageReference: KS-6; PackageDescription: 6-Pin Thin Shrink Small Outline Transistor Package, Body 2 x 1.25 mm, Pitch 0.65 mm; Supplier 1: Digi-Key; Supplier Part Number 1: ADG3241BKSZ-REEL-ND; Supplier 2: Newark; Supplier Part Number 2: 59K1204; Supplier 3: Mouser; Supplier Part Number 3: 584-ADG3241BKSZ-R; Data Rate (typ): 1500Mbps; Packing: Reel; Mounting Technology: Surface Mount; Code_JEDEC: MO-203-AB; ComponentLink1Description: Manufacturer URL; ComponentLink1URL: http://www.analog.com/en/index.html; ComponentLink2Description: Datasheet; ComponentLink2URL: http://www.analog.com/static/imported-files/data_sheets/ADG3241.pdf; ComponentLink3Description: Package Specification; ComponentLink3URL: http://www.analog.com/static/imported-files/packages/PKG_PDF/SC70(KS)/KS_6.pdf
footprint ADI-KS-6_N (SOT23, 6-Leads, Body 2x1.25mm, Pitch 0.65mm, IPC Medium Density)
footprint ADI-KS-6_L (SOT23, 6-Leads, Body 2x1.25mm, Pitch 0.65mm, IPC High Density)
footprint ADI-KS-6_M (SOT23, 6-Leads, Body 2x1.25mm, Pitch 0.65mm, IPC Low Density)
pins: 1 ~{BE} (in) "Bus Enable (Active Low)", 2 GND (power) "Ground Reference", 3 A (io) "Port A, Input or Output", 4 B (io) "Port B, Input or Output", 5 VCC (power) "Positive Power Supply Voltage", 6 ~{SEL} (in) "Level Translation Select"

## ADG3241BKSZ-REEL7
designator U?
1500 Mbps, 2.5 V / 3.3 V, 1-Bit, 2-Port Level Translator Bus Switch, 225 ps Prop Delay, -40 to 85 degC, 6-Pin SOT (KS-6), Reel; Manufacturer: Analog Devices; PartNumber: ADG3241BKSZ-REEL7; ICC1: 1uA; DatasheetVersion: Rev. B; PackageVersion: 072809-A, 07/2009; PackageReference: KS-6; PackageDescription: 6-Pin Thin Shrink Small Outline Transistor Package, Body 2 x 1.25 mm, Pitch 0.65 mm; Supplier 1: Digi-Key; Supplier Part Number 1: ADG3241BKSZ-REEL7TR-ND; Supplier 2: Digi-Key; Supplier Part Number 2: ADG3241BKSZ-REEL7CT-ND; Supplier 3: Digi-Key; Supplier Part Number 3: ADG3241BKSZ-REEL7DKR-ND; Supplier 4: Mouser; Supplier Part Number 4: 584-ADG3241BKSZ-R7; Data Rate (typ): 1500Mbps; Packing: Reel; Mounting Technology: Surface Mount; Code_JEDEC: MO-203-AB; ComponentLink1Description: Manufacturer URL; ComponentLink1URL: http://www.analog.com/en/index.html; ComponentLink2Description: Datasheet; ComponentLink2URL: http://www.analog.com/static/imported-files/data_sheets/ADG3241.pdf; ComponentLink3Description: Package Specification; ComponentLink3URL: http://www.analog.com/static/imported-files/packages/PKG_PDF/SC70(KS)/KS_6.pdf
footprint ADI-KS-6_N (SOT23, 6-Leads, Body 2x1.25mm, Pitch 0.65mm, IPC Medium Density)
footprint ADI-KS-6_L (SOT23, 6-Leads, Body 2x1.25mm, Pitch 0.65mm, IPC High Density)
footprint ADI-KS-6_M (SOT23, 6-Leads, Body 2x1.25mm, Pitch 0.65mm, IPC Low Density)
pins: 1 ~{BE} (in) "Bus Enable (Active Low)", 2 GND (power) "Ground Reference", 3 A (io) "Port A, Input or Output", 4 B (io) "Port B, Input or Output", 5 VCC (power) "Positive Power Supply Voltage", 6 ~{SEL} (in) "Level Translation Select"

## ADG3242BRJZ-REEL7
designator U?
1500 Mbps, 2.5 V / 3.3 V, 2-Bit, Common Control Level Translator Bus Switch, 225 ps Prop Delay, -40 to 85 degC, 8-Pin SOT23 (RJ-8), Reel; Manufacturer: Analog Devices; PartNumber: ADG3242BRJZ-REEL7; ICC1: 1uA; DatasheetVersion: Rev. A; PackageVersion: 121608-A, 12/2008; PackageReference: RJ-8; PackageDescription: 8-Pin Small Outline Transistor Package, Body 2.9 x 1.6 mm, Pitch 0.65 mm; Supplier 1: Digi-Key; Supplier Part Number 1: ADG3242BRJZ-REEL7TR-ND; Supplier 2: Digi-Key; Supplier Part Number 2: ADG3242BRJZ-REEL7CT-ND; Supplier 3: Digi-Key; Supplier Part Number 3: ADG3242BRJZ-REEL7DKR-ND; Supplier 4: Newark; Supplier Part Number 4: 12M7780; Supplier 5: Mouser; Supplier Part Number 5: 584-ADG3242BRJZ-R7; Data Rate (typ): 1500Mbps; Packing: Reel; Mounting Technology: Surface Mount; Code_JEDEC: MO-178-BA; ComponentLink1Description: Manufacturer URL; ComponentLink1URL: http://www.analog.com/en/index.html; ComponentLink2Description: Datasheet; ComponentLink2URL: http://www.analog.com/static/imported-files/data_sheets/ADG3242.pdf; ComponentLink3Description: Package Specification; ComponentLink3URL: http://www.analog.com/static/imported-files/packages/PKG_PDF/SOT-23(RJ)/RJ_8.pdf
footprint ADI-RJ-8_V (SOT23, 8-Leads, Body 2.9x1.6mm, Pitch 0.65mm)
pins: 1 ~{BE} (in) "Bus Enable (Active Low).", 2 A0 (io) "Port A0, Input or Output", 3 A1 (io) "Port A1, Input or Output", 4 GND (power) "Ground Reference", 5 B1 (io) "Port B1, Input or Output", 6 B0 (io) "Port B0, Input or Output", 7 ~{SEL} (in) "Level Translation Select.", 8 VCC (power) "Positive Power Supply Voltage"

## ADG3243BRJ-R2
designator U?
1500 Mbps, 2.5 V / 3.3 V, 2-Bit, Individual Control Level Translator Bus Switch, 225 ps Prop Delay, -40 to 85 degC, 8-Pin SOT23 (RJ-8), Reel; Manufacturer: Analog Devices; PartNumber: ADG3243BRJ-R2; ICC1: 1uA; DatasheetVersion: Rev. 0; PackageVersion: 121608-A, 12/2008; PackageReference: RJ-8; PackageDescription: 8-Pin Small Outline Transistor Package, Body 2.9 x 1.6 mm, Pitch 0.65 mm; Supplier 1: Digi-Key; Supplier Part Number 1: ADG3243BRJ-R2TR-ND; Supplier 2: Digi-Key; Supplier Part Number 2: ADG3243BRJ-R2CT-ND; Supplier 3: Digi-Key; Supplier Part Number 3: ADG3243BRJ-R2DKR-ND; Supplier 4: Mouser; Supplier Part Number 4: 584-ADG3243BRJ-R2; Data Rate (typ): 1500Mbps; Packing: Reel; Mounting Technology: Surface Mount; Code_JEDEC: MO-178-BA; ComponentLink1Description: Manufacturer URL; ComponentLink1URL: http://www.analog.com/en/index.html; ComponentLink2Description: Datasheet; ComponentLink2URL: http://www.analog.com/static/imported-files/data_sheets/ADG3243.pdf; ComponentLink3Description: Package Specification; ComponentLink3URL: http://www.analog.com/static/imported-files/packages/PKG_PDF/SOT-23(RJ)/RJ_8.pdf
footprint ADI-RJ-8_V (SOT23, 8-Leads, Body 2.9x1.6mm, Pitch 0.65mm)
pins: 1 ~{BE0} (in) "Bus Enable (Active Low)", 2 A0 (io) "Port A0, Input or Output", 3 A1 (io) "Port A1, Input or Output", 4 GND (power) "Ground Reference", 5 B1 (io) "Port B1, Input or Output", 6 B0 (io) "Port B0, Input or Output", 7 ~{BE1} (in) "Bus Enable (Active Low)", 8 VCC (power) "Positive Power Supply Voltage"

## ADG3243BRJ-REEL
designator U?
1500 Mbps, 2.5 V / 3.3 V, 2-Bit, Individual Control Level Translator Bus Switch, 225 ps Prop Delay, -40 to 85 degC, 8-Pin SOT23 (RJ-8), Reel; Manufacturer: Analog Devices; PartNumber: ADG3243BRJ-REEL; ICC1: 1uA; DatasheetVersion: Rev. 0; PackageVersion: 121608-A, 12/2008; PackageReference: RJ-8; PackageDescription: 8-Pin Small Outline Transistor Package, Body 2.9 x 1.6 mm, Pitch 0.65 mm; Supplier 1: Digi-Key; Supplier Part Number 1: ADG3243BRJ-REEL-ND; Supplier 2: Mouser; Supplier Part Number 2: 584-ADG3243BRJ-R; Data Rate (typ): 1500Mbps; Packing: Reel; Mounting Technology: Surface Mount; Code_JEDEC: MO-178-BA; ComponentLink1Description: Manufacturer URL; ComponentLink1URL: http://www.analog.com/en/index.html; ComponentLink2Description: Datasheet; ComponentLink2URL: http://www.analog.com/static/imported-files/data_sheets/ADG3243.pdf; ComponentLink3Description: Package Specification; ComponentLink3URL: http://www.analog.com/static/imported-files/packages/PKG_PDF/SOT-23(RJ)/RJ_8.pdf
footprint ADI-RJ-8_V (SOT23, 8-Leads, Body 2.9x1.6mm, Pitch 0.65mm)
pins: 1 ~{BE0} (in) "Bus Enable (Active Low)", 2 A0 (io) "Port A0, Input or Output", 3 A1 (io) "Port A1, Input or Output", 4 GND (power) "Ground Reference", 5 B1 (io) "Port B1, Input or Output", 6 B0 (io) "Port B0, Input or Output", 7 ~{BE1} (in) "Bus Enable (Active Low)", 8 VCC (power) "Positive Power Supply Voltage"

## ADG3243BRJ-REEL7
designator U?
1500 Mbps, 2.5 V / 3.3 V, 2-Bit, Individual Control Level Translator Bus Switch, 225 ps Prop Delay, -40 to 85 degC, 8-Pin SOT23 (RJ-8), Reel; Manufacturer: Analog Devices; PartNumber: ADG3243BRJ-REEL7; ICC1: 1uA; DatasheetVersion: Rev. 0; PackageVersion: 121608-A, 12/2008; PackageReference: RJ-8; PackageDescription: 8-Pin Small Outline Transistor Package, Body 2.9 x 1.6 mm, Pitch 0.65 mm; Supplier 1: Digi-Key; Supplier Part Number 1: ADG3243BRJ-REEL7-ND; Supplier 2: Mouser; Supplier Part Number 2: 584-ADG3243BRJ-R7; Data Rate (typ): 1500Mbps; Packing: Reel; Mounting Technology: Surface Mount; Code_JEDEC: MO-178-BA; ComponentLink1Description: Manufacturer URL; ComponentLink1URL: http://www.analog.com/en/index.html; ComponentLink2Description: Datasheet; ComponentLink2URL: http://www.analog.com/static/imported-files/data_sheets/ADG3243.pdf; ComponentLink3Description: Package Specification; ComponentLink3URL: http://www.analog.com/static/imported-files/packages/PKG_PDF/SOT-23(RJ)/RJ_8.pdf
footprint ADI-RJ-8_V (SOT23, 8-Leads, Body 2.9x1.6mm, Pitch 0.65mm)
pins: 1 ~{BE0} (in) "Bus Enable (Active Low)", 2 A0 (io) "Port A0, Input or Output", 3 A1 (io) "Port A1, Input or Output", 4 GND (power) "Ground Reference", 5 B1 (io) "Port B1, Input or Output", 6 B0 (io) "Port B0, Input or Output", 7 ~{BE1} (in) "Bus Enable (Active Low)", 8 VCC (power) "Positive Power Supply Voltage"

## ADG3243BRJZ-REEL7
designator U?
1500 Mbps, 2.5 V / 3.3 V, 2-Bit, Individual Control Level Translator Bus Switch, 225 ps Prop Delay, -40 to 85 degC, 8-Pin SOT23 (RJ-8), Reel; Manufacturer: Analog Devices; PartNumber: ADG3243BRJZ-REEL7; ICC1: 1uA; DatasheetVersion: Rev. 0; PackageVersion: 121608-A, 12/2008; PackageReference: RJ-8; PackageDescription: 8-Pin Small Outline Transistor Package, Body 2.9 x 1.6 mm, Pitch 0.65 mm; Supplier 1: Digi-Key; Supplier Part Number 1: ADG3243BRJZ-REEL7TR-ND; Supplier 2: Digi-Key; Supplier Part Number 2: ADG3243BRJZ-REEL7CT-ND; Supplier 3: Digi-Key; Supplier Part Number 3: ADG3243BRJZ-REEL7DKR-ND; Supplier 4: Mouser; Supplier Part Number 4: 584-ADG3243BRJZ-R7; Data Rate (typ): 1500Mbps; Packing: Reel; Mounting Technology: Surface Mount; Code_JEDEC: MO-178-BA; ComponentLink1Description: Manufacturer URL; ComponentLink1URL: http://www.analog.com/en/index.html; ComponentLink2Description: Datasheet; ComponentLink2URL: http://www.analog.com/static/imported-files/data_sheets/ADG3243.pdf; ComponentLink3Description: Package Specification; ComponentLink3URL: http://www.analog.com/static/imported-files/packages/PKG_PDF/SOT-23(RJ)/RJ_8.pdf
footprint ADI-RJ-8_V (SOT23, 8-Leads, Body 2.9x1.6mm, Pitch 0.65mm)
pins: 1 ~{BE0} (in) "Bus Enable (Active Low)", 2 A0 (io) "Port A0, Input or Output", 3 A1 (io) "Port A1, Input or Output", 4 GND (power) "Ground Reference", 5 B1 (io) "Port B1, Input or Output", 6 B0 (io) "Port B0, Input or Output", 7 ~{BE1} (in) "Bus Enable (Active Low)", 8 VCC (power) "Positive Power Supply Voltage"

## ADG3245BCPZ
designator U?
1244 Mbps, 2.5 V / 3.3 V, 8-Bit, 2-Port Level Translating, Bus Switch, 225 ps Prop Delay, -40 to 85 degC, 20-pin QFN (CP-20-6), Tray; Manufacturer: Analog Devices; PartNumber: ADG3245BCPZ; ICC1: 1uA; DatasheetVersion: Rev. A; PackageVersion: 061708-A, 07/2011; PackageReference: CP-20-6; PackageDescription: 20-Pin Lead Frame Chip Scale Package, Body 4 x 4 mm, Pitch 0.5 mm; Supplier 1: Digi-Key; Supplier Part Number 1: ADG3245BCPZ-ND; Supplier 2: Newark; Supplier Part Number 2: 12M7782; Supplier 3: Mouser; Supplier Part Number 3: 584-ADG3245BCPZ; Data Rate (typ): 1244Mbps; Packing: Tray; Mounting Technology: Surface Mount; Code_JEDEC: MO-220; ComponentLink1Description: Manufacturer URL; ComponentLink1URL: http://www.analog.com/en/index.html; ComponentLink2Description: Datasheet; ComponentLink2URL: http://www.analog.com/static/imported-files/data_sheets/ADG3245.pdf; ComponentLink3Description: Package Specification; ComponentLink3URL: http://www.analog.com/static/imported-files/packages/PKG_PDF/LFCSP(CP)/CP_20_6.pdf
footprint ADI-CP-20-6_N (QFN, 20-Leads, Body 4x4mm, Pitch 0.5mm, Thermal Pad 2.15x2.15mm, IPC Medium Density)
footprint ADI-CP-20-6_L (QFN, 20-Leads, Body 4x4mm, Pitch 0.5mm, Thermal Pad 2.15x2.15mm, IPC High Density)
footprint ADI-CP-20-6_M (QFN, 20-Leads, Body 4x4mm, Pitch 0.5mm, Thermal Pad 2.15x2.15mm, IPC Low Density)
pins: 1 ~{SEL} (in) "Level Translation Select", 2 A4 (io) "Port A, Inputs or Outputs", 3 A5 (io) "Port A, Inputs or Outputs", 4 A6 (io) "Port A, Inputs or Outputs", 5 A7 (io) "Port A, Inputs or Outputs", 6 GND (power) "Ground (0 V) Reference.", 7 B7 (io) "Port B, Inputs or Outputs", 8 B6 (io) "Port B, Inputs or Outputs", 9 B5 (io) "Port B, Inputs or Outputs", 10 B4 (io) "Port B, Inputs or Outputs", 11 B3 (io) "Port B, Inputs or Outputs", 12 B2 (io) "Port B, Inputs or Outputs", 13 B1 (io) "Port B, Inputs or Outputs", 14 B0 (io) "Port B, Inputs or Outputs", 15 ~{BE} (in) "Bus Enable (Active Low)", 16 VCC (power) "Positive Power Supply Voltage.", 17 A0 (io) "Port A, Inputs or Outputs", 18 A1 (io) "Port A, Inputs or Outputs", 19 A2 (io) "Port A, Inputs or Outputs", 20 A3 (io) "Port A, Inputs or Outputs", 21 EP (power) "Exposed Pad. It is recommended that the exposed pad be thermally connected to a copper plane for enhanced thermal performance. The pad should be grounded as well."

## ADG3245BRU
designator U?
1244 Mbps, 2.5 V / 3.3 V, 8-Bit, 2-Port Level Translating, Bus Switch, 225 ps Prop Delay, -40 to 85 degC, 20-pin SOP (RU-20), Tube; Manufacturer: Analog Devices; PartNumber: ADG3245BRU; ICC1: 1uA; DatasheetVersion: Rev. A; PackageVersion: Jan-03; PackageReference: RU-20; PackageDescription: 20-Pin Thin Shrink Small Outline Package, Body 6.5 x 4.4 mm, Pitch 0.65 mm; Supplier 1: Digi-Key; Supplier Part Number 1: ADG3245BRU-ND; Supplier 2: Mouser; Supplier Part Number 2: 584-ADG3245BRU; Data Rate (typ): 1244Mbps; Packing: Tube; Mounting Technology: Surface Mount; Code_JEDEC: MO-153AC; ComponentLink1Description: Manufacturer URL; ComponentLink1URL: http://www.analog.com/en/index.html; ComponentLink2Description: Datasheet; ComponentLink2URL: http://www.analog.com/static/imported-files/data_sheets/ADG3245.pdf; ComponentLink3Description: Package Specification; ComponentLink3URL: http://www.analog.com/static/imported-files/packages/364515793657813558433715854054607941441RU20.pdf
footprint ADI-RU-20_N (SOP, 20-Leads, Body 6.5x4.4mm, Pitch 0.65mm, IPC Medium Density)
footprint ADI-RU-20_L (SOP, 20-Leads, Body 6.5x4.4mm, Pitch 0.65mm, IPC High Density)
footprint ADI-RU-20_M (SOP, 20-Leads, Body 6.5x4.4mm, Pitch 0.65mm, IPC Low Density)
pins: 1 ~{SEL} (in) "Level Translation Select", 2 A0 (io) "Port A, Inputs or Outputs", 3 A1 (io) "Port A, Inputs or Outputs", 4 A2 (io) "Port A, Inputs or Outputs", 5 A3 (io) "Port A, Inputs or Outputs", 6 A4 (io) "Port A, Inputs or Outputs", 7 A5 (io) "Port A, Inputs or Outputs", 8 A6 (io) "Port A, Inputs or Outputs", 9 A7 (io) "Port A, Inputs or Outputs", 10 GND (power) "Ground (0 V) Reference.", 11 B7 (io) "Port B, Inputs or Outputs", 12 B6 (io) "Port B, Inputs or Outputs", 13 B5 (io) "Port B, Inputs or Outputs", 14 B4 (io) "Port B, Inputs or Outputs", 15 B3 (io) "Port B, Inputs or Outputs", 16 B2 (io) "Port B, Inputs or Outputs", 17 B1 (io) "Port B, Inputs or Outputs", 18 B0 (io) "Port B, Inputs or Outputs", 19 ~{BE} (in) "Bus Enable (Active Low)", 20 VCC (power) "Positive Power Supply Voltage."

## ADG3245BRU-REEL7
designator U?
1244 Mbps, 2.5 V / 3.3 V, 8-Bit, 2-Port Level Translating, Bus Switch, 225 ps Prop Delay, -40 to 85 degC, 20-pin SOP (RU-20), Reel; Manufacturer: Analog Devices; PartNumber: ADG3245BRU-REEL7; ICC1: 1uA; DatasheetVersion: Rev. A; PackageVersion: Jan-03; PackageReference: RU-20; PackageDescription: 20-Pin Thin Shrink Small Outline Package, Body 6.5 x 4.4 mm, Pitch 0.65 mm; Supplier 1: Mouser; Supplier Part Number 1: N/A; Data Rate (typ): 1244Mbps; Packing: Reel; Mounting Technology: Surface Mount; Code_JEDEC: MO-153AC; ComponentLink1Description: Manufacturer URL; ComponentLink1URL: http://www.analog.com/en/index.html; ComponentLink2Description: Datasheet; ComponentLink2URL: http://www.analog.com/static/imported-files/data_sheets/ADG3245.pdf; ComponentLink3Description: Package Specification; ComponentLink3URL: http://www.analog.com/static/imported-files/packages/364515793657813558433715854054607941441RU20.pdf
footprint ADI-RU-20_N (SOP, 20-Leads, Body 6.5x4.4mm, Pitch 0.65mm, IPC Medium Density)
footprint ADI-RU-20_L (SOP, 20-Leads, Body 6.5x4.4mm, Pitch 0.65mm, IPC High Density)
footprint ADI-RU-20_M (SOP, 20-Leads, Body 6.5x4.4mm, Pitch 0.65mm, IPC Low Density)
pins: 1 ~{SEL} (in) "Level Translation Select", 2 A0 (io) "Port A, Inputs or Outputs", 3 A1 (io) "Port A, Inputs or Outputs", 4 A2 (io) "Port A, Inputs or Outputs", 5 A3 (io) "Port A, Inputs or Outputs", 6 A4 (io) "Port A, Inputs or Outputs", 7 A5 (io) "Port A, Inputs or Outputs", 8 A6 (io) "Port A, Inputs or Outputs", 9 A7 (io) "Port A, Inputs or Outputs", 10 GND (power) "Ground (0 V) Reference.", 11 B7 (io) "Port B, Inputs or Outputs", 12 B6 (io) "Port B, Inputs or Outputs", 13 B5 (io) "Port B, Inputs or Outputs", 14 B4 (io) "Port B, Inputs or Outputs", 15 B3 (io) "Port B, Inputs or Outputs", 16 B2 (io) "Port B, Inputs or Outputs", 17 B1 (io) "Port B, Inputs or Outputs", 18 B0 (io) "Port B, Inputs or Outputs", 19 ~{BE} (in) "Bus Enable (Active Low)", 20 VCC (power) "Positive Power Supply Voltage."

## ADG3245BRUZ
designator U?
1244 Mbps, 2.5 V / 3.3 V, 8-Bit, 2-Port Level Translating, Bus Switch, 225 ps Prop Delay, -40 to 85 degC, 20-pin SOP (RU-20), Tube; Manufacturer: Analog Devices; PartNumber: ADG3245BRUZ; ICC1: 1uA; DatasheetVersion: Rev. A; PackageVersion: Jan-03; PackageReference: RU-20; PackageDescription: 20-Pin Thin Shrink Small Outline Package, Body 6.5 x 4.4 mm, Pitch 0.65 mm; Supplier 1: Digi-Key; Supplier Part Number 1: ADG3245BRUZ-ND; Supplier 2: Mouser; Supplier Part Number 2: 584-ADG3245BRUZ; Data Rate (typ): 1244Mbps; Packing: Tube; Mounting Technology: Surface Mount; Code_JEDEC: MO-153AC; ComponentLink1Description: Manufacturer URL; ComponentLink1URL: http://www.analog.com/en/index.html; ComponentLink2Description: Datasheet; ComponentLink2URL: http://www.analog.com/static/imported-files/data_sheets/ADG3245.pdf; ComponentLink3Description: Package Specification; ComponentLink3URL: http://www.analog.com/static/imported-files/packages/364515793657813558433715854054607941441RU20.pdf
footprint ADI-RU-20_N (SOP, 20-Leads, Body 6.5x4.4mm, Pitch 0.65mm, IPC Medium Density)
footprint ADI-RU-20_L (SOP, 20-Leads, Body 6.5x4.4mm, Pitch 0.65mm, IPC High Density)
footprint ADI-RU-20_M (SOP, 20-Leads, Body 6.5x4.4mm, Pitch 0.65mm, IPC Low Density)
pins: 1 ~{SEL} (in) "Level Translation Select", 2 A0 (io) "Port A, Inputs or Outputs", 3 A1 (io) "Port A, Inputs or Outputs", 4 A2 (io) "Port A, Inputs or Outputs", 5 A3 (io) "Port A, Inputs or Outputs", 6 A4 (io) "Port A, Inputs or Outputs", 7 A5 (io) "Port A, Inputs or Outputs", 8 A6 (io) "Port A, Inputs or Outputs", 9 A7 (io) "Port A, Inputs or Outputs", 10 GND (power) "Ground (0 V) Reference.", 11 B7 (io) "Port B, Inputs or Outputs", 12 B6 (io) "Port B, Inputs or Outputs", 13 B5 (io) "Port B, Inputs or Outputs", 14 B4 (io) "Port B, Inputs or Outputs", 15 B3 (io) "Port B, Inputs or Outputs", 16 B2 (io) "Port B, Inputs or Outputs", 17 B1 (io) "Port B, Inputs or Outputs", 18 B0 (io) "Port B, Inputs or Outputs", 19 ~{BE} (in) "Bus Enable (Active Low)", 20 VCC (power) "Positive Power Supply Voltage."